# Altium integrated library WS-ROTU THT Rotary Switch 10x10 mm right angle, 2.54 mm Pitch.IntLib: 8 symbols
Pins are listed as number, name and electrical type; pins without a type are passive.

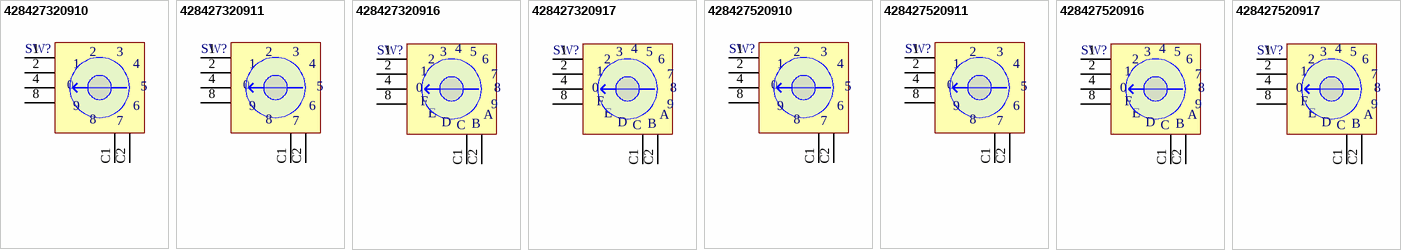
[diagram p0: symbols 428427320910 to 428427520917]

## 428427320910
designator SW?
WS-ROTU THT Rotary Switch 10x10 mm right angle, 2.54 mm Pitch; PartNumber: 428427320910; NoPins: 06; PackageReference: 428427320910; ComponentLink1Description: Manufacturer URL; ComponentLink1URL: http://www.we-online.com; ComponentLink2Description: Datasheet; ComponentLink2URL: http://katalog.we-online.de/em/datasheet/428427320910.pdf
footprint 428427320910 (10 position, 2,54mm Pitch, Right Angled type, THT, Round Arrow type, dark grey actuator,real code, Tube)
pins: 1, 2, 4, 8, C1, C2
text: 3; 0; 5; 9; 6; 7

## 428427320911
designator SW?
WS-ROTU THT Rotary Switch 10x10 mm right angle,2.54  mm Pitch; PartNumber: 428427320911; NoPins: 06; PackageReference: 428427320911; ComponentLink1Description: Manufacturer URL; ComponentLink1URL: http://www.we-online.com; ComponentLink2Description: Datasheet; ComponentLink2URL: http://katalog.we-online.de/em/datasheet/428427320911.pdf
footprint 428427320911 (10 position, 2,54mm Pitch, Right Angled type, THT, Round Arrow type, ivory actuator,complement code, Tube)
pins: 1, 2, 4, 8, C1, C2
text: 3; 0; 5; 9; 6; 7

## 428427320916
designator SW?
WS-ROTU THT Rotary Switch 10x10 mm right angle,2.54 mm Pitch; PartNumber: 428427320916; NoPins: 06; PackageReference: 428427320916; ComponentLink1Description: Manufacturer URL; ComponentLink1URL: http://www.we-online.com; ComponentLink2Description: Datasheet; ComponentLink2URL: http://katalog.we-online.de/em/datasheet/428427320916.pdf
footprint 428427320916 (16 position, 2,54mm Pitch, Right Angled type, THT, Round Arrow type, dark grey actuator,real code, Tube)
pins: 1, 2, 4, 8, C1, C2
text: 3; 5; 6; 7; 0; F; 9; E; A; D; C; B

## 428427320917
designator SW?
WS-ROTU THT Rotary Switch 10x10 mm right angle,2.54 mm Pitch; PartNumber: 428427320917; NoPins: 06; PackageReference: 428427320917; ComponentLink1Description: Manufacturer URL; ComponentLink1URL: http://www.we-online.com; ComponentLink2Description: Datasheet; ComponentLink2URL: http://katalog.we-online.de/em/datasheet/428427320917.pdf
footprint 428427320917 (16 position, 2,54mm Pitch, Right Angled type, THT, Round Arrow type, ivory actuator,complement code, Tube)
pins: 1, 2, 4, 8, C1, C2
text: 3; 5; 6; 7; 0; F; 9; E; A; D; C; B

## 428427520910
designator SW?
WS-ROTU THT Rotary Switch 10x10 mm right angle, 2.54 mm Pitch; PartNumber: 428427520910; NoPins: 06; PackageReference: 428427520910; ComponentLink1Description: Manufacturer URL; ComponentLink1URL: http://www.we-online.com; ComponentLink2Description: Datasheet; ComponentLink2URL: http://katalog.we-online.de/em/datasheet/428427520910.pdf
footprint 428427520910 (10 position, 2,54mm Pitch, Right Angled type, THT, Round Cross type, dark grey actuator,real code, Tube)
pins: 1, 2, 4, 8, C1, C2
text: 3; 0; 5; 9; 6; 7

## 428427520911
designator SW?
WS-ROTU THT Rotary Switch 10x10 mm right angle, 2.54 mm Pitch; PartNumber: 428427520911; NoPins: 06; PackageReference: 428427520911; ComponentLink1Description: Manufacturer URL; ComponentLink1URL: http://www.we-online.com; ComponentLink2Description: Datasheet; ComponentLink2URL: http://katalog.we-online.de/em/datasheet/428427520911.pdf
footprint 428427520911 (10 position, 2,54mm Pitch, Right Angled type, THT, Round Cross type, ivory actuator,complement code, Tube)
pins: 1, 2, 4, 8, C1, C2
text: 3; 0; 5; 9; 6; 7

## 428427520916
designator SW?
WS-ROTU THT Rotary Switch 10x10 mm right angle, 2.54 mm Pitch; PartNumber: 428427520916; NoPins: 06; PackageReference: 428427520916; ComponentLink1Description: Manufacturer URL; ComponentLink1URL: http://www.we-online.com; ComponentLink2Description: Datasheet; ComponentLink2URL: http://katalog.we-online.de/em/datasheet/428427520916.pdf
footprint 428427520916 (16 position, 2,54mm Pitch, Right Angled type, THT, Round Cross type, dark grey actuator,real code, Tube)
pins: 1, 2, 4, 8, C1, C2
text: 3; 5; 6; 7; 0; F; 9; E; A; D; C; B

## 428427520917
designator SW?
WS-ROTU THT Rotary Switch 10x10 mm right angle, 2.54 mm Pitch; PartNumber: 428427520917; NoPins: 06; PackageReference: 428427520917; ComponentLink1Description: Manufacturer URL; ComponentLink1URL: http://www.we-online.com; ComponentLink2Description: Datasheet; ComponentLink2URL: http://katalog.we-online.de/em/datasheet/428427520917.pdf
footprint 428427520917 (16 position, 2,54mm Pitch, Right Angled type, THT, Round Cross type, ivory actuator,complement code, Tube)
pins: 1, 2, 4, 8, C1, C2
text: 3; 5; 6; 7; 0; F; 9; E; A; D; C; B